# Altium schematic symbol library C0603C151K3GACTU.SchLib: 1 symbol
Pins are listed as number, name and electrical type; pins without a type are passive.

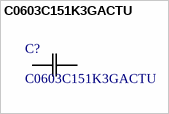
[diagram p0: symbol C0603C151K3GACTU]

## C0603C151K3GACTU
designator C?
SMD Comm C0G, Ceramic, 150 pF, 10%, 25 VDC, C0G, SMD, MLCC, Ultra-Stable, Low Loss, Class I, 0603; Manufacturer_Name: Kemet; Copyright: Copyright (C) 2025 Ultra Librarian. All rights reserved.; Manufacturer_Part_Number: C0603C151K3GACTU
footprint CAPC17595_87N_KEM
pins: 1, 2